# Altium footprint library 1.PcbLib: 34 footprints (part 3 of 3)
Each footprint in its own frame and in the unit in brackets; x right, y up, seen from the top. Pads: shape width x height; smd on the part's side, far side on the other; paste and mask are expansions set on the pad; w line width, h text height; cw(c..) or ccw(c..) is an arc to the next point about the centre after c.
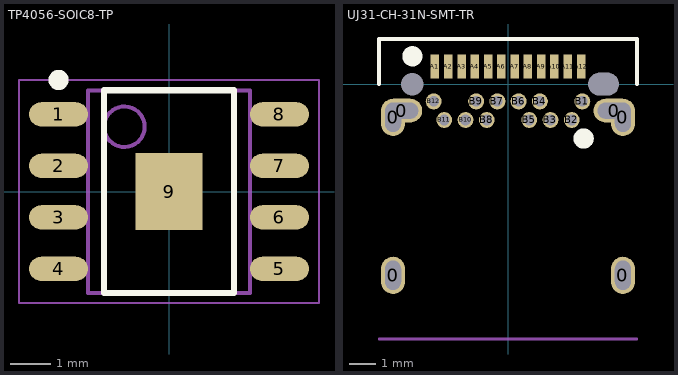
[diagram p2: the footprints below, top view; thin cyan lines are the x and y axes]

## TP4056-SOIC8-TP [mm]
height 1.75
pads (9):
  oval 1.45x0.6 smd: 1(-2.725,1.905) 2(-2.725,0.635) 3(-2.725,-0.635) 4(-2.725,-1.905) 5(2.725,-1.905) 6(2.725,-0.635) 7(2.725,0.635) 8(2.725,1.905)
  rect 1.65x1.9 smd: 9(0,0)
Top Overlay:
  circle w0.25: c-2.725,2.755 r0.125
  lines w0.15: -1.6,-2.5 -1.6,2.5 1.6,2.5 1.6,-2.5 -1.6,-2.5
Mechanical 13:
  circle w0.1: c-1.1,1.6 r0.5
  lines w0.1: -2,-2.5 -2,2.5 2,2.5 2,-2.5 -2,-2.5
Mechanical 15:
  lines w0.05: -3.7,-2.75 -3.7,2.75 3.7,2.75 3.7,-2.75 -3.7,-2.75
  lines w0.1: -0.5,0 0.5,0 ; 0,-0.5 0,0.5
3D body "TP4056-SOIC8-TP.step": height 1.75, standoff 0, extent -3,-2.5 3,2.5

## UJ31-CH-31N-SMT-TR [mm]
pads (32):
  oval 0.9x1.4 hole 0.6 slot 1.1 at 90 deg: 0(-4.33,-7.2) 0(-4.33,-1.25) 0(4.33,-7.2) 0(4.33,-1.25)
  oval 1.55x0.9 hole 0.6 slot 1.25 at 0 deg: 0(-4.005,-1) 0(4,-1)
  round 0 hole 0.85 unplated: 0(-3.6,0)
  round 0 hole 0.85 slot 1.15 at 0 deg unplated: 0(3.6,0)
  rect 0.32x0.9 smd: A1(-2.75,0.66) A2(-2.25,0.66) A3(-1.75,0.66) A4(-1.25,0.66) A5(-0.75,0.66) A6(-0.25,0.66) A7(0.25,0.66) A8(0.75,0.66) A9(1.25,0.66) A10(1.75,0.66) A11(2.25,0.66) A12(2.75,0.66)
  round 0.6 hole 0.4: B1(2.8,-0.65) B2(2.4,-1.35) B3(1.6,-1.35) B4(1.2,-0.65) B5(0.8,-1.35) B6(0.4,-0.65) B7(-0.4,-0.65) B8(-0.8,-1.35) B9(-1.2,-0.65) B10(-1.6,-1.35) B11(-2.4,-1.35) B12(-2.8,-0.65)
Top Overlay:
  circle w0.254: c2.85,-2.05 r0.255
  circle w0.254: c2.85,-2.05 r0.1
  circle w0.254: c-3.6,1.05 r0.255
  circle w0.254: c-3.6,1.05 r0.1
  lines w0.15: -4.85,0 -4.85,1.7 4.85,1.7 4.85,0
Mechanical 1:
  lines w0.1: -4.85,-9.6 4.85,-9.6
  text "PCB Line" at -1.804,-9.35 h0.5
3D body "CUI_DEVICES_UJ31-CH-31N-SMT-TR.step": height 3.2, standoff -0.88, extent -4.85,-9.6 4.85,1.7